# Altium footprint library Wireless power_inverter.PcbLib: 24 footprints (part 2 of 2)
Each footprint in its own frame and in the unit in brackets; x right, y up, seen from the top. Pads: shape width x height; smd on the part's side, far side on the other; paste and mask are expansions set on the pad; w line width, h text height; cw(c..) or ccw(c..) is an arc to the next point about the centre after c.
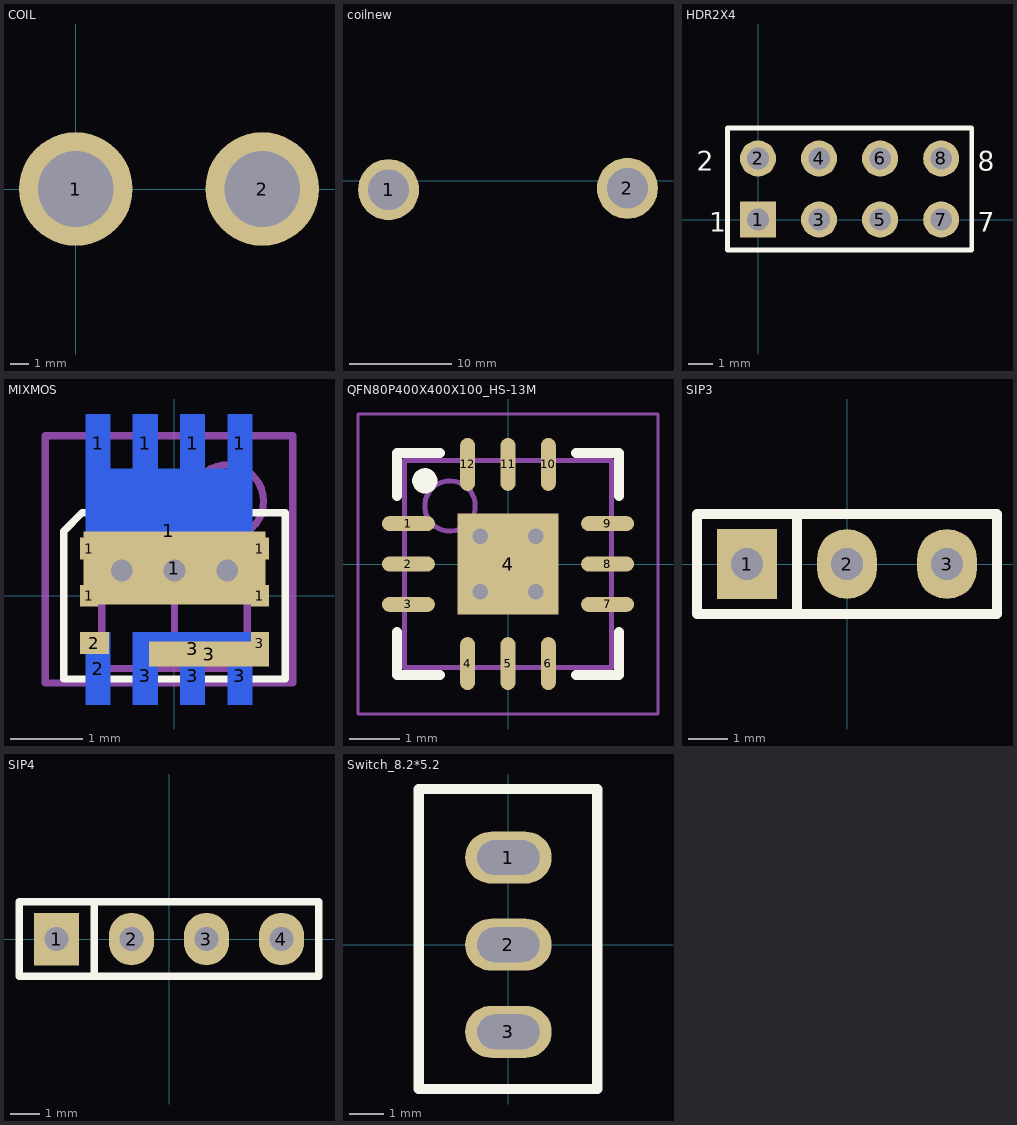
[diagram p1: the footprints below, top view; thin cyan lines are the x and y axes]

## COIL [mm]
pads (2):
  round 6 hole 4: 1(0,0) 2(9.85,0)

## coilnew [mm]
pads (2):
  round 6 hole 4: 1(24.384,-0.889) 2(47.879,-0.762)

## HDR2X4 [mm] "Connector; Header; 4x2 Position"
height 9.91
pads (8):
  rect 1.5x1.5 hole 0.9: 1(0,0)
  round 1.5 hole 0.9: 2(0,2.54) 3(2.54,0) 4(2.54,2.54) 5(5.08,0) 6(5.08,2.54) 7(7.62,0) 8(7.62,2.54)
Top Overlay:
  lines w0.2: -1.27,-1.27 8.89,-1.27 8.89,3.81 -1.27,3.81 -1.27,-1.27
  text "2" at -2.54,2.032 h0.8
  text "1" at -2.032,-0.508 h0.8
  text "7" at 9.144,-0.508 h0.8
  text "8" at 9.144,2.032 h0.8

## MIXMOS [mm]
pads (18):
  rect 0.25x0.3 smd: 1(-1.175,0) 1(-1.175,0.65) 1(1.175,0) 1(1.175,0.65) 3(1.175,-0.65)
  rect 0.34x0.8 smd far side: 1(-1.05,2.1) 1(-0.4,2.1) 1(0.25,2.1) 1(0.9,2.1) 3(-0.4,-1.1) 3(0.25,-1.1) 3(0.9,-1.1)
  rect 2.29x1.71 smd far side: 1(-0.075,0.895)
  rect 2.5x1 smd: 1(0,0.381)
  rect 0.4x0.3 smd: 2(-1.1,-0.65)
  rect 0.34x1 smd far side: 2(-1.05,-1)
  rect 1.64x0.45 smd far side: 3(0.25,-0.725)
  rect 1.65x0.35 smd: 3(0.475,-0.8)
via 0.725,0.35 diameter 0.5 hole 0.3
via 0,0.35 diameter 0.5 hole 0.3
via -0.725,0.35 diameter 0.5 hole 0.3
Top Overlay:
  lines w0.1: -1.524,-1.143 -1.524,0.889 -1.27,1.143 1.524,1.143 1.524,-1.143 -1.524,-1.143
Bottom Overlay:
  circle w0.25: c1.4,-0.95 r0.125
  lines w0.254: -1.925,0.223 -1.925,-1.35 -1.652,-1.35 ; -1.925,0.777 -1.925,2.35 -1.652,2.35 ; 1.502,-1.35 1.775,-1.35 1.775,0.223 ; 1.502,2.35 1.775,2.35 1.775,0.777
Mechanical 13:
  circle w0.1: c0.725,1.3 r0.5
  lines w0.1: -1.775,-1.2 1.625,-1.2 1.625,2.2 -1.775,2.2 -1.775,-1.2 ; -1,-1 1,-1 1,1 -1,1 -1,-1
Mechanical 15:
  lines w0.1: -0.575,0.5 0.425,0.5 ; -0.5,0 0.5,0 ; -0.075,0 -0.075,1 ; 0,-0.5 0,0.5

## QFN80P400X400X100_HS-13M [mm] "QFN, 12-Leads, Body 4.00x4.00mm, Pitch 0.80mm, Thermal Pad 2.00x2.00mm, IPC Low Density"
height 1
pads (13):
  oval 1.05x0.3 smd: 1(-1.975,0.8) 2(-1.975,0) 3(-1.975,-0.8) 7(1.975,-0.8) 8(1.975,0) 9(1.975,0.8)
  oval 0.3x1.05 smd: 4(-0.8,-1.975) 5(0,-1.975) 6(0.8,-1.975) 10(0.8,1.975) 11(0,1.975) 12(-0.8,1.975)
  rect 2x2 smd: 4(0,0)
via -0.55,0.55 diameter 0.5 hole 0.3
via 0.55,0.55 diameter 0.5 hole 0.3
via -0.55,-0.55 diameter 0.5 hole 0.3
via 0.55,-0.55 diameter 0.5 hole 0.3
Top Overlay:
  circle w0.25: c-1.65,1.65 r0.125
  lines w0.2: -2.2,-1.35 -2.2,-2.2 -1.35,-2.2 ; -2.2,1.35 -2.2,2.2 -1.35,2.2 ; 1.35,-2.2 2.2,-2.2 2.2,-1.35 ; 1.35,2.2 2.2,2.2 2.2,1.35
Mechanical 13:
  circle w0.1: c-1.15,1.15 r0.5
  lines w0.1: -2.05,-2.05 -2.05,2.05 2.05,2.05 2.05,-2.05 -2.05,-2.05
Mechanical 15:
  lines w0.05: -2.975,-2.975 -2.975,2.975 2.975,2.975 2.975,-2.975 -2.975,-2.975
  lines w0.1: -0.5,0 0.5,0 ; 0,-0.5 0,0.5

## SIP3 [mil]
height 390.16
pads (3):
  rect 60x70 hole 32: 1(-100,0)
  oval 60x70 hole 32: 2(0,0) 3(100,0)
Top Overlay:
  lines w10: -50,-50 -50,50 ; -150,-50 150,-50 150,50 -150,50 -150,-50
3D body "1001-3.STEP": height 336.22, standoff -118.11, extent -150,-51 150,49

## SIP4 [mil]
height 390.16
pads (4):
  rect 60x70 hole 32: 1(-150,0)
  oval 60x70 hole 32: 2(-50,0) 3(50,0) 4(150,0)
Top Overlay:
  lines w10: -100,-50 -100,50 ; -200,-50 200,-50 200,50 -200,50 -200,-50
3D body "1001-4.STEP": height 336.22, standoff -118.11, extent -200,-50 200,50

## Switch_8.2*5.2 [mm]
pads (3):
  oval 2.5x1.5 hole 1 slot 1.8 at 0 deg: 1(0,2.515) 2(0,0) 3(0,-2.515)
Top Overlay:
  lines w0.3: -2.591,-4.166 -2.591,4.496 2.565,4.496 2.565,-4.166 -2.591,-4.166